# Altium footprint library MGTF.PcbLib: 6 footprints
Each footprint in its own frame and in the unit in brackets; x right, y up, seen from the top. Pads: shape width x height; smd on the part's side, far side on the other; paste and mask are expansions set on the pad; w line width, h text height; cw(c..) or ccw(c..) is an arc to the next point about the centre after c.
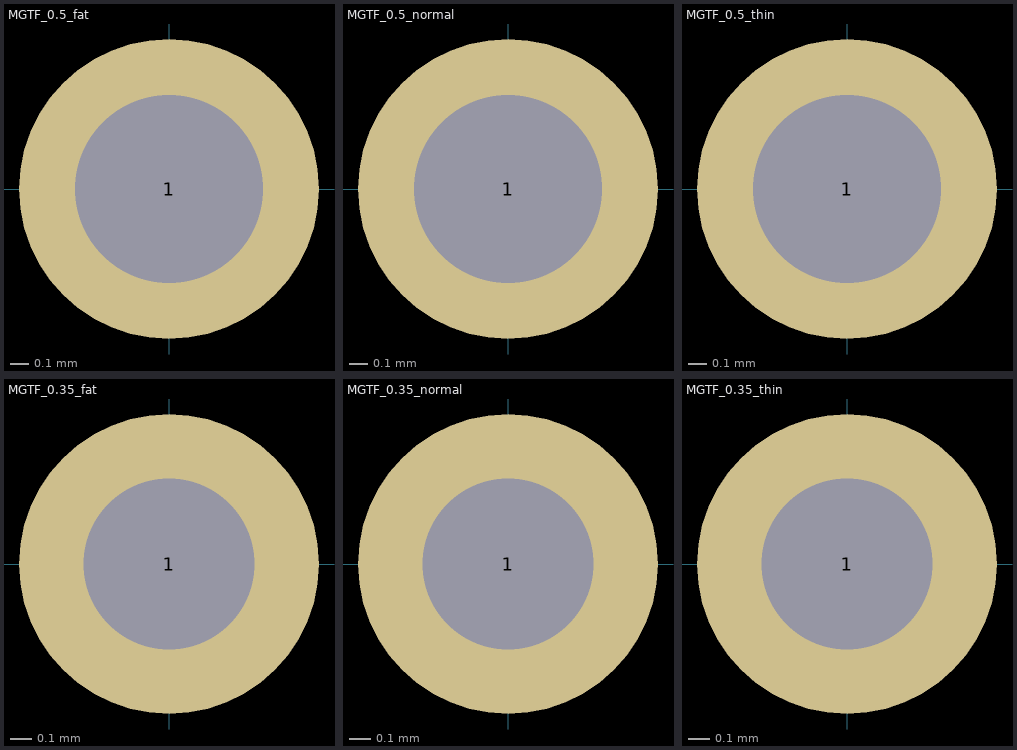
[diagram p0: the footprints below, top view; thin cyan lines are the x and y axes]

## MGTF_0.5_fat [mm]
pads (1):
  round 1.6 hole 1: 1(0,0)
3D body "Wire_05_FAT.x_t": height 1.48, standoff -13.22, extent -0.798,-0.8 0.799,0.794

## MGTF_0.5_normal [mm]
pads (1):
  round 1.6 hole 1: 1(0,0)
3D body "Wire_05_NORMAL.x_t": height 1.48, standoff -11.22, extent -0.8,-0.798 0.794,0.799

## MGTF_0.5_thin [mm]
pads (1):
  round 1.6 hole 1: 1(0,0)
3D body "Wire_05_THIN.x_t": height 1.88, standoff -10.82, extent -0.8,-0.798 0.794,0.799

## MGTF_0.35_fat [mm]
pads (1):
  round 1.4 hole 0.8: 1(0,0)
3D body "Wire.x_t": height 1.5, standoff -13.2, extent -0.599,-0.6 0.599,0.595

## MGTF_0.35_normal [mm]
pads (1):
  round 1.4 hole 0.8: 1(0,0)
3D body "Wire2.x_t": height 1.5, standoff -11.2, extent -0.599,-0.6 0.599,0.595

## MGTF_0.35_thin [mm]
pads (1):
  round 1.4 hole 0.8: 1(0,0)
3D body "Wire3.x_t": height 1.7, standoff -11, extent -0.599,-0.6 0.599,0.595